# EAGLE library part 74*257 (library 74ttl-din)
Quadruple 2-to 1 line data SELECTOR/MULTIPLEXER
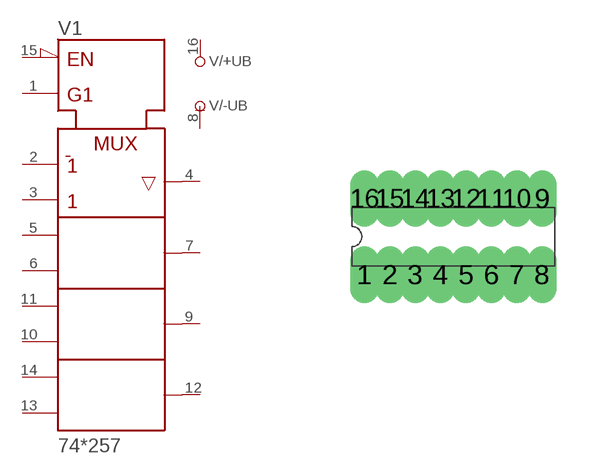
[diagram p76: symbol with the pads of DIL16; footprint DIL16]

Designator prefix V; gates /+UB=+UB /-UB=-UB 1=257

## 74257N  [DIL16]
1  1:!A!/B  in
2  1:1A  in
3  1:1B  in
4  1:1Y  hiz
5  1:2A  in
6  1:2B  in
7  1:2Y  hiz
8  /-UB:-UB  pwr
9  1:3Y  hiz
10  1:3B  in
11  1:3A  in
12  1:4Y  hiz
13  1:4B  in
14  1:4A  in
15  1:!G  in
16  /+UB:+UB  pwr

## Footprint DIL16 (pad centres in mm)
Dual In Line Package
drill 0.203 long: 1 -2.223,-0.953; 2 -1.587,-0.953; 3 -0.953,-0.953; 4 -0.318,-0.953; 5 0.318,-0.953; 6 0.953,-0.953; 7 1.587,-0.953; 8 2.223,-0.953; 9 2.223,0.953; 10 1.587,0.953; 11 0.953,0.953; 12 0.318,0.953; 13 -0.318,0.953; 14 -0.953,0.953; 15 -1.587,0.953; 16 -2.223,0.953